# Altium schematic symbol library CONN_9P.Schlib: 1 symbol
Pins are listed as number, name and electrical type; pins without a type are passive.

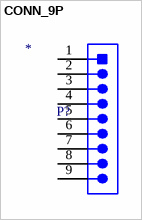
[diagram p0: symbol CONN_9P]

## CONN_9P
designator P?
Value: *
pins: 1, 2, 3 1, 4 2, 5, 6, 7, 8, 9